# Altium integrated library LFXTAL003237.IntLib: 1 symbol
Pins are listed as number, name and electrical type; pins without a type are passive.

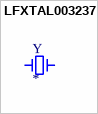
[diagram p0: symbol LFXTAL003237]

## LFXTAL003237
designator Y
16MHz Â±30ppm Crystal 16pF 40 Ohms HC-49/US; MF: IQD Frequency Products; MP: LFXTAL003237; SnapEDA_Link: https://www.snapeda.com/parts/LFXTAL003237/IQD%20Frequency%20Products/view-part/214799/?ref=snap; Package: HC-49/US IQD Frequency Products; Price: None; Availability: Unavailable; Value: *
footprint XTAL1140X490X430N
pins: 1, 2